# Altium footprint library ALTAIR_PD_ChipPassives.PcbLib: 20 footprints (part 1 of 2)
Each footprint in its own frame and in the unit in brackets; x right, y up, seen from the top. Pads: shape width x height; smd on the part's side, far side on the other; paste and mask are expansions set on the pad; w line width, h text height; cw(c..) or ccw(c..) is an arc to the next point about the centre after c.
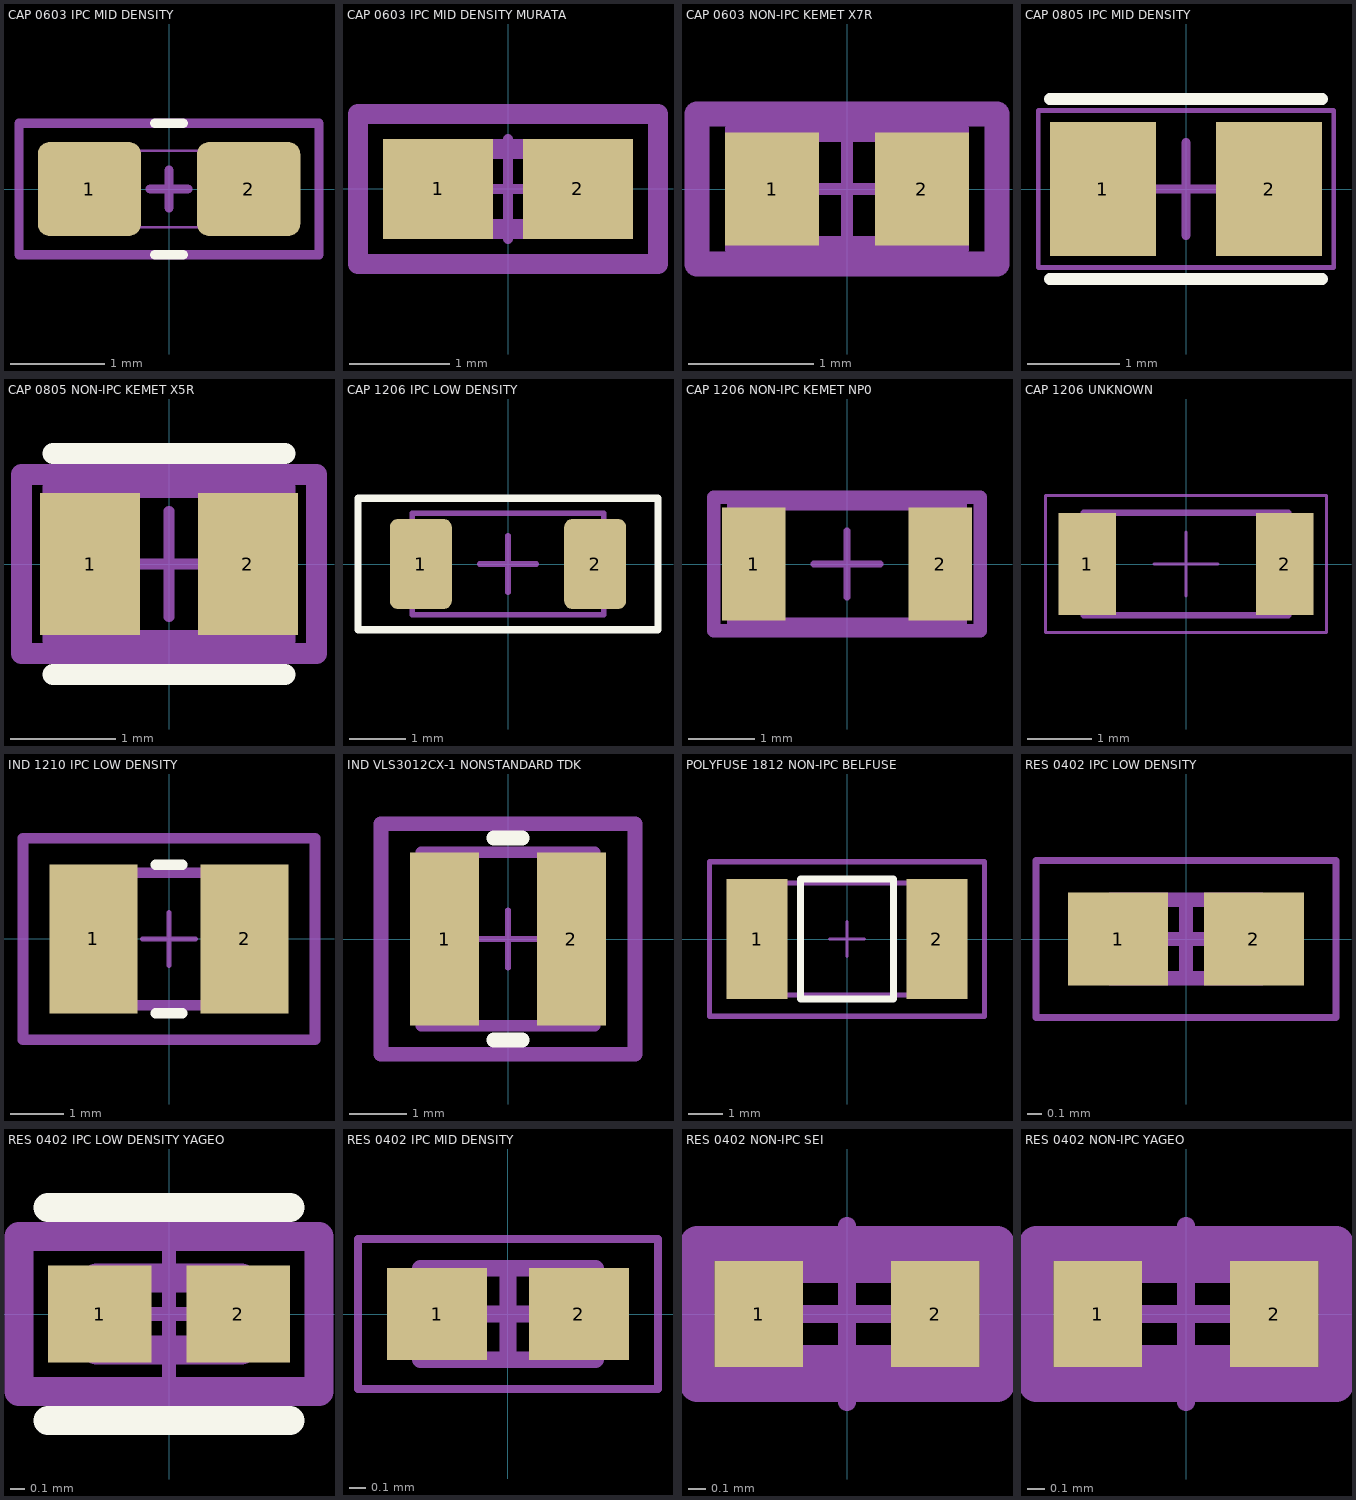
[diagram p0: the footprints below, top view; thin cyan lines are the x and y axes]

## CAP 0603 IPC MID DENSITY [mm]
pads (2):
  rrect25% 1.1x1 smd: 1(-0.85,0) 2(0.85,0)
Top Overlay:
  lines w0.1: -0.151,-0.7 0.151,-0.7 ; -0.151,0.7 0.151,0.7
Bottom Courtyard:
  lines w0.025: -0.813,-0.406 -0.813,0.406 0.813,0.406 0.813,-0.406 -0.813,-0.406
Mechanical 15:
  lines w0.1: -0.2,0 0.2,0 ; 0,-0.2 0,0.2 ; -1.6,-0.7 1.6,-0.7 1.6,0.7 -1.6,0.7 -1.6,-0.7
3D body "CAP0603.stp": height 0.3, standoff 0, extent -0.8,-0.4 0.8,0.4

## CAP 0603 IPC MID DENSITY MURATA [mm]
pads (2):
  rect 1.105x1.006 smd paste+0 mask+0: 1(-0.701,0) 2(0.701,0)
Top Assembly:
  lines w0.2: -1.503,-0.753 -1.503,0.753 1.503,0.753 1.503,-0.753 -1.503,-0.753
Top Courtyard:
  lines w0.2: -1.503,-0.753 -1.503,0.753 1.503,0.753 1.503,-0.753 -1.503,-0.753
Top 3D Body:
  lines w0.2: -0.8,-0.4 -0.8,0.4 0.8,0.4 0.8,-0.4 -0.8,-0.4
Top Component Center:
  lines w0.1: -0.5,0 0.5,0 ; 0,-0.5 0,0.5
3D body "Cap_Murata_GRM188C71C225KE11D_eec.STEP": height 0.25, standoff 0, extent -1.503,-0.753 1.503,0.753

## CAP 0603 NON-IPC KEMET X7R [mm]
pads (2):
  rect 0.75x0.9 smd paste+0 mask+0: 1(-0.6,0) 2(0.6,0)
Top Assembly:
  lines w0.2: -1.2,-0.6 -1.2,0.6 1.2,0.6 1.2,-0.6 -1.2,-0.6
Top Courtyard:
  lines w0.2: -1.2,-0.6 -1.2,0.6 1.2,0.6 1.2,-0.6 -1.2,-0.6
Top 3D Body:
  lines w0.2: -0.875,-0.475 -0.875,0.475 0.875,0.475 0.875,-0.475 -0.875,-0.475
Top Component Center:
  lines w0.1: -0.5,0 0.5,0 ; 0,-0.5 0,0.5
3D body "Cap_KEMET_C0603C272M5JACTU_eec.STEP": height 0.25, standoff 0, extent -1.2,-0.6 1.2,0.6

## CAP 0805 IPC MID DENSITY [mm]
pads (2):
  rect 1.15x1.45 smd paste+0 mask+0: 1(-0.9,0) 2(0.9,0)
Top Overlay:
  lines w0.127: -1.475,-0.975 1.475,-0.975 ; -1.475,0.975 1.475,0.975
Top Courtyard:
  lines w0.05: -1.6,-0.85 -1.6,0.85 1.6,0.85 1.6,-0.85 -1.6,-0.85
Top Component Center:
  lines w0.1: -0.5,0 0.5,0 ; 0,-0.5 0,0.5
3D body "GRM21BR61E106KA73L.STEP": height 1.22, standoff -0.03, extent -1,-0.7 1,0.7

## CAP 0805 NON-IPC KEMET X5R [mm]
pads (2):
  rect 0.95x1.35 smd paste+0 mask+0: 1(-0.75,0) 2(0.75,0)
Top Overlay:
  lines w0.2: -1.1,-1.05 1.1,-1.05 ; -1.1,1.05 1.1,1.05
Top Assembly:
  lines w0.2: -1.4,-0.85 1.4,-0.85 1.4,0.85 -1.4,0.85 -1.4,-0.85
  text ".Designator" at 0,0.188 h1
Top Courtyard:
  lines w0.2: -1.4,-0.85 1.4,-0.85 1.4,0.85 -1.4,0.85 -1.4,-0.85
Top 3D Body:
  lines w0.2: -1.1,-0.725 1.1,-0.725 1.1,0.725 -1.1,0.725 -1.1,-0.725
Top Component Center:
  lines w0.1: -0.5,0 0.5,0 ; 0,-0.5 0,0.5
3D body "Cap_Kemet_C0805C475K8PACTU_eec.STEP": height 1.4, standoff 0, extent -1,-0.625 1,0.625

## CAP 1206 IPC LOW DENSITY [mm]
pads (2):
  rrect25% 1.1x1.6 smd: 1(-1.55,0) 2(1.55,0)
Top Overlay:
  lines w0.127: -2.667,-1.168 2.667,-1.168 2.667,1.168 -2.667,1.168 -2.667,-1.168
Top Assembly:
  lines w0.1: -1.7,-0.9 -1.7,0.9 1.7,0.9 1.7,-0.9 -1.7,-0.9
Top Courtyard:
  lines w0.05: -2.667,-1.168 -2.667,1.168 2.667,1.168 2.667,-1.168 -2.667,-1.168
  lines w0.1: -0.5,0 0.5,0 ; 0,-0.5 0,0.5
3D body "C1206-IPC.step": height 1.8, standoff 0, extent -1.7,-0.9 1.7,0.9

## CAP 1206 NON-IPC KEMET NP0 [mm]
pads (2):
  rect 0.95x1.7 smd paste+0 mask+0: 1(-1.4,0) 2(1.4,0)
Top Assembly:
  lines w0.2: -2,-1 -2,1 2,1 2,-1 -2,-1
  text ".Designator" at 0,0.188 h1
Top Courtyard:
  lines w0.2: -2,-1 -2,1 2,1 2,-1 -2,-1
Top 3D Body:
  lines w0.2: -1.7,-0.9 -1.7,0.9 1.7,0.9 1.7,-0.9 -1.7,-0.9
Top Component Center:
  lines w0.1: -0.5,0 0.5,0 ; 0,-0.5 0,0.5
3D body "Cap_KEMET_C1206C472K4RACTU_eec.STEP": height 0.25, standoff 0, extent -2,-1 2,1

## CAP 1206 UNKNOWN [mm] "Ceramic Capacitors, body 3.2x1.6mm, WCAP-CSGP_1206_L3.2W1.6H0.8"
height 0.9
pads (2):
  rect 0.9x1.6 smd: 1(-1.55,0) 2(1.55,0)
Top Courtyard:
  lines w0.05: -0.5,0 0.5,0 ; 0,-0.5 0,0.5 ; -2.2,-1.075 -2.2,1.075 2.2,1.075 2.2,-1.075 -2.2,-1.075
Top 3D Body:
  lines w0.1: -1.6,-0.8 -1.6,0.8 1.6,0.8 1.6,-0.8 -1.6,-0.8
Top Component Outline:
  lines w0.1: -1.6,-0.8 1.6,-0.8 1.6,0.8 -1.6,0.8 -1.6,-0.8
Top Designator:
  text ".Designator" at -4.998,-0.333 h1
3D body "CAPC3216X08N.step": height 0.8, standoff 0, extent -1.6,-0.8 1.6,0.8

## IND 1210 IPC LOW DENSITY [mm] "Taiyo Yuden branding on 3D body"
pads (2):
  rect 1.654x2.806 smd paste+0 mask+0: 1(-1.426,0) 2(1.426,0)
Top Overlay:
  lines w0.2: -0.249,-1.403 0.249,-1.403 ; -0.249,1.403 0.249,1.403
Top Assembly:
  lines w0.2: -2.753,-1.903 2.753,-1.903 2.753,1.903 -2.753,1.903 -2.753,-1.903
  text ".Designator" at 0,0.188 h1
Top Courtyard:
  lines w0.2: -2.753,-1.903 2.753,-1.903 2.753,1.903 -2.753,1.903 -2.753,-1.903
Top 3D Body:
  lines w0.2: -1.6,-1.25 1.6,-1.25 1.6,1.25 -1.6,1.25 -1.6,-1.25
Top Component Center:
  lines w0.1: -0.5,0 0.5,0 ; 0,-0.5 0,0.5
3D body "Ind_Taiyo_Yuden_CBC3225T2R2MR_eec.STEP": height 2.7, standoff 0, extent -1.6,-1.25 1.6,1.25

## IND VLS3012CX-1 NONSTANDARD TDK [mm]
pads (2):
  rect 1.2x3 smd mask+0: 1(-1.1,0) 2(1.1,0)
Top Overlay:
  lines w0.254: -0.25,-1.75 0.25,-1.75 ; -0.25,1.75 0.25,1.75
Top Assembly:
  text ".Designator" at 0,0.188 h1
Top Courtyard:
  lines w0.254: -2.2,-2 2.2,-2 2.2,2 -2.2,2 -2.2,-2
Top 3D Body:
  lines w0.2: -1.5,-1.5 -1.5,1.5 1.5,1.5 1.5,-1.5 -1.5,-1.5
Top Component Center:
  lines w0.1: -0.5,0 0.5,0 ; 0,-0.5 0,0.5
3D body "VLS3012CX-100M-1.stp": height 1.19, standoff -0.01, extent -1.502,-1.509 1.502,1.509

## POLYFUSE 1812 NON-IPC BELFUSE [mm]
pads (2):
  rect 1.78x3.5 smd mask+0: 1(-2.615,0) 2(2.615,0)
Top Overlay:
  lines w0.2: -1.35,-1.75 -1.35,1.75 1.35,1.75 1.35,-1.75 -1.35,-1.75
Top Courtyard:
  lines w0.15: -4,-2.25 4,-2.25 4,2.25 -4,2.25 -4,-2.25
Top 3D Body:
  lines w0.15: -2.275,-1.625 2.275,-1.625 2.275,1.625 -2.275,1.625 -2.275,-1.625
Top Component Center:
  lines w0.1: -0.5,0 0.5,0 ; 0,-0.5 0,0.5
3D body "0ZCG0030FF2C.step": height 0.7, standoff 0, extent -2.275,-1.62 2.275,1.62

## RES 0402 IPC LOW DENSITY [mm]
pads (2):
  rect 0.7x0.65 smd: 1(-0.475,0) 2(0.475,0)
Mechanical 13:
  lines w0.1: -0.525,-0.275 0.525,-0.275 0.525,0.275 -0.525,0.275 -0.525,-0.275
Mechanical 15:
  lines w0.05: -1.05,-0.55 1.05,-0.55 1.05,0.55 -1.05,0.55 -1.05,-0.55
  lines w0.1: -0.275,0 0.275,0 ; 0,-0.275 0,0.275
3D body: height 0.4, standoff 0, extent 0.275,-0.275 0.525,0.275
3D body: height 0.4, standoff 0, extent -0.525,-0.275 -0.275,0.275
3D body: height 0.4, standoff 0, extent -0.275,-0.275 0.275,0.275

## RES 0402 IPC LOW DENSITY YAGEO [mm]
pads (2):
  rect 0.715x0.672 smd paste+0 mask+0: 1(-0.479,0) 2(0.479,0)
Top Overlay:
  lines w0.2: -0.836,-0.736 0.836,-0.736 ; -0.836,0.736 0.836,0.736
Top Assembly:
  lines w0.2: -1.036,-0.536 -1.036,0.536 1.036,0.536 1.036,-0.536 -1.036,-0.536
  text ".Designator" at 0,0.188 h1
Top Courtyard:
  lines w0.2: -1.036,-0.536 -1.036,0.536 1.036,0.536 1.036,-0.536 -1.036,-0.536
Top 3D Body:
  lines w0.2: -0.5,-0.25 -0.5,0.25 0.5,0.25 0.5,-0.25 -0.5,-0.25
Top Component Center:
  lines w0.1: -0.5,0 0.5,0 ; 0,-0.5 0,0.5
3D body "Res_YAGEO_RC0402JR-071ML_eec.STEP": height 0.4, standoff 0, extent -0.5,-0.25 0.5,0.25

## RES 0402 IPC MID DENSITY [mm] "Chip Resistor, 2-Leads, Body 1.00x0.50mm, IPC Medium Density"
height 0.4
pads (2):
  rect 0.6x0.55 smd: 1(-0.425,0) 2(0.425,0)
Mechanical 13:
  lines w0.1: -0.525,-0.275 0.525,-0.275 0.525,0.275 -0.525,0.275 -0.525,-0.275
Mechanical 15:
  lines w0.05: -0.9,-0.45 0.9,-0.45 0.9,0.45 -0.9,0.45 -0.9,-0.45
  lines w0.1: -0.275,0 0.275,0 ; 0,-0.275 0,0.275
3D body: height 0.4, standoff 0, extent 0.275,-0.275 0.525,0.275
3D body: height 0.4, standoff 0, extent -0.525,-0.275 -0.275,0.275
3D body: height 0.4, standoff 0, extent -0.275,-0.275 0.275,0.275

## RES 0402 NON-IPC SEI [mm]
pads (2):
  rect 0.5x0.6 smd paste+0 mask+0: 1(-0.5,0) 2(0.5,0)
Top Assembly:
  lines w0.2: -0.85,-0.4 -0.85,0.4 0.85,0.4 0.85,-0.4 -0.85,-0.4
  text ".Designator" at 0,0.188 h1
Top Courtyard:
  lines w0.2: -0.85,-0.4 -0.85,0.4 0.85,0.4 0.85,-0.4 -0.85,-0.4
Top 3D Body:
  lines w0.2: -0.55,-0.275 -0.55,0.275 0.55,0.275 0.55,-0.275 -0.55,-0.275
Top Component Center:
  lines w0.1: -0.5,0 0.5,0 ; 0,-0.5 0,0.5
3D body "Res_Stackpole_Electronics_RMCF0402FT1K00_eec.STEP": height 0.25, standoff 0, extent -0.85,-0.4 0.85,0.4

## RES 0402 NON-IPC YAGEO [mm]
pads (2):
  rect 0.5x0.6 smd paste+0 mask+0: 1(-0.5,0) 2(0.5,0)
Top Assembly:
  lines w0.2: -0.85,-0.4 0.85,-0.4 0.85,0.4 -0.85,0.4 -0.85,-0.4
  text ".Designator" at 0,0.188 h1
Top Courtyard:
  lines w0.2: -0.85,-0.4 0.85,-0.4 0.85,0.4 -0.85,0.4 -0.85,-0.4
Top 3D Body:
  lines w0.2: -0.525,-0.275 0.525,-0.275 0.525,0.275 -0.525,0.275 -0.525,-0.275
Top Component Center:
  lines w0.1: -0.5,0 0.5,0 ; 0,-0.5 0,0.5
3D body "Res_Yageo_AF0402JR-7W82KL_eec.STEP": height 0.25, standoff 0, extent -0.85,-0.4 0.85,0.4